# Altium footprint library SOT Pakage-Small Outline Transistor.PcbLib: 9 footprints
Each footprint in its own frame and in the unit in brackets; x right, y up, seen from the top. Pads: shape width x height; smd on the part's side, far side on the other; paste and mask are expansions set on the pad; w line width, h text height; cw(c..) or ccw(c..) is an arc to the next point about the centre after c.
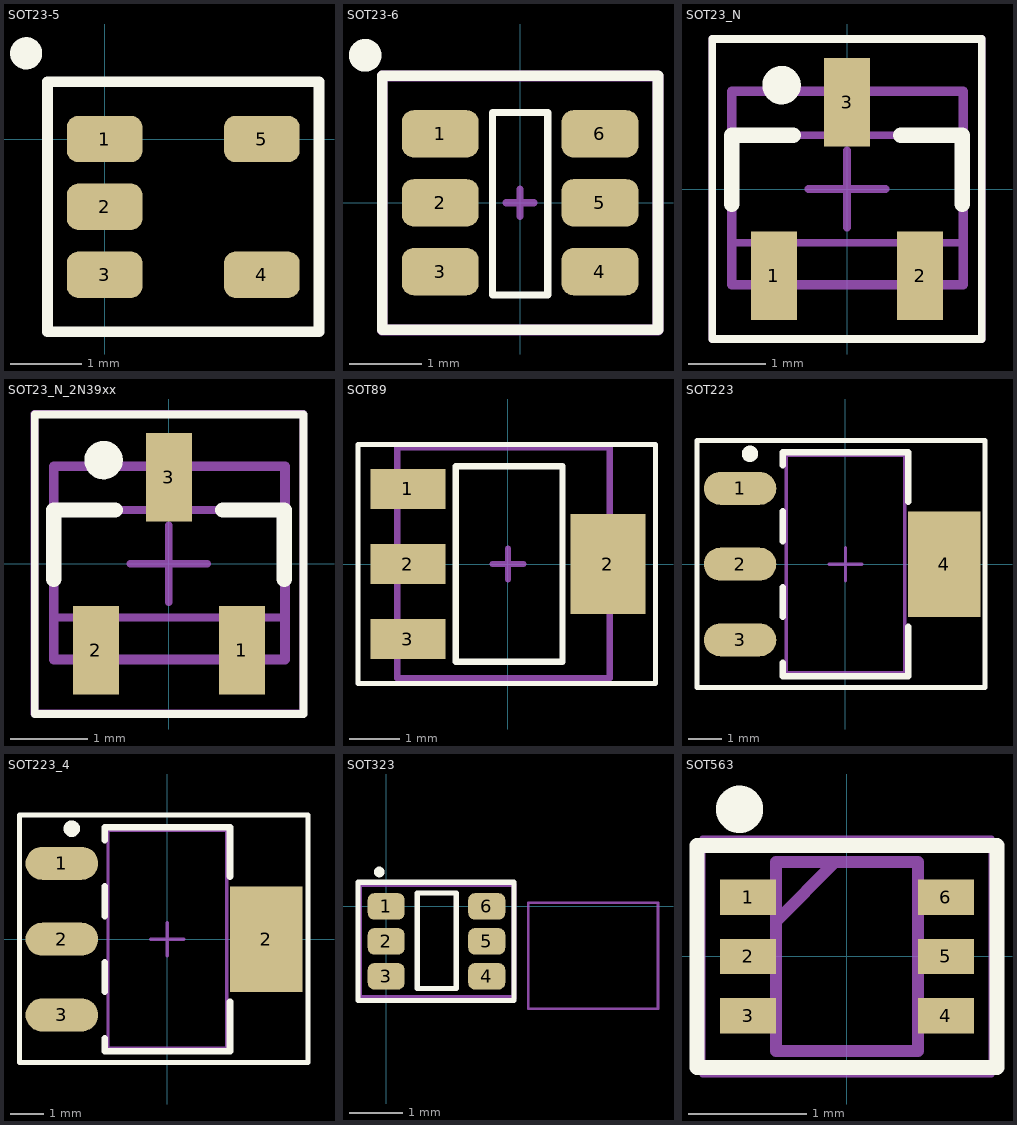
[diagram p0: the footprints below, top view; thin cyan lines are the x and y axes]

## SOT23-5 [mm]
height 3
pads (5):
  rrect50% 1.06x0.65 smd: 1(0,0) 2(0,-0.95) 3(0,-1.9) 4(2.2,-1.9) 5(2.2,0)
Top Overlay:
  circle w0.25: c-1.1,1.2 r0.1
  lines w0.15: -0.8,-2.7 3,-2.7 3,0.8 -0.8,0.8 -0.8,-2.7
3D body "sot235.step": height 1, standoff 0, extent -0.07,-2.41 2.27,0.51

## SOT23-6 [mm]
height 3
pads (6):
  rrect50% 1.06x0.65 smd: 1(-1.1,0.95) 2(-1.1,0) 3(-1.1,-0.95) 4(1.1,-0.95) 5(1.1,0) 6(1.1,0.95)
Top Overlay:
  circle w0.25: c-2.134,2.032 r0.1
  lines w0.1: -0.381,-1.27 -0.381,1.245 0.381,1.245 0.381,-1.27 -0.381,-1.27
  lines w0.15: -1.9,-1.75 -1.9,1.75 1.9,1.75 1.9,-1.75 -1.9,-1.75
Mechanical 15:
  lines w0.1: -0.191,0 0.191,0 ; 0,-0.191 0,0.191
  lines w0.15: -1.9,-1.753 1.9,-1.753 1.9,1.747 -1.9,1.747 -1.9,-1.753
3D body "TSOP-6.step": height 1.03, standoff 0.03, extent -1.35,-1.5 1.35,1.5

## SOT23_N [mm] "SOT23, 3-Leads, Body 2.9x1.3mm, Pitch 0.95mm, Lead Span 2.3mm - Reverse Pinning, IPC Medium Density"
height 1.1
pads (3):
  rect 0.6x1.15 smd: 1(-0.95,-1.125) 2(0.95,-1.125) 3(0,1.125)
Top Overlay:
  circle w0.25: c-0.85,1.35 r0.125
  lines w0.1: -1.75,-1.95 -1.75,1.95 1.75,1.95 1.75,-1.95 -1.75,-1.95
  lines w0.2: -1.5,-0.2 -1.5,0.7 -0.7,0.7 ; 0.7,0.7 1.5,0.7 1.5,-0.2
Mechanical 13:
  lines w0.1: -1.5,-0.7 1.5,-0.7 1.5,0.7 -1.5,0.7 -1.5,-0.7
Mechanical 15:
  lines w0.1: -0.5,0 0.5,0 ; 0,-0.5 0,0.5 ; -1.75,-1.95 1.75,-1.95 1.75,1.95 -1.75,1.95 -1.75,-1.95
  lines w0.127: -1.499,-1.245 1.486,-1.245 1.511,-1.245 1.511,1.27 -1.499,1.27 -1.499,-1.245
3D body "SW3DPS-SOT-23-DEFAULT.STEP": height 1.06, standoff -0.04, extent -1.5,-1.25 1.5,1.25

## SOT23_N_2N39xx [mm] "SOT23, 3-Leads, Body 2.9x1.3mm, Pitch 0.95mm, Lead Span 2.3mm - Reverse Pinning, IPC Medium Density"
height 1.1
pads (3):
  rect 0.6x1.15 smd: 1(0.95,-1.125) 2(-0.95,-1.125) 3(0,1.125)
Top Overlay:
  circle w0.25: c-0.85,1.35 r0.125
  lines w0.1: -1.747,-1.956 1.753,-1.956 1.753,1.944 -1.747,1.944 -1.747,-1.956
  lines w0.2: -1.5,-0.2 -1.5,0.7 -0.7,0.7 ; 0.7,0.7 1.5,0.7 1.5,-0.2
Mechanical 13:
  lines w0.1: -1.5,-0.7 -1.5,0.7 1.5,0.7 1.5,-0.7 -1.5,-0.7
Mechanical 15:
  lines w0.1: -0.5,0 0.5,0 ; 0,-0.5 0,0.5 ; -1.75,-1.95 -1.75,1.95 1.75,1.95 1.75,-1.95 -1.75,-1.95
  lines w0.127: -1.499,-1.245 -1.499,1.27 1.511,1.27 1.511,-1.245 1.486,-1.245 -1.499,-1.245
3D body "SW3DPS-SOT-23-DEFAULT.STEP": height 1.06, standoff -0.04, extent -1.5,-1.25 1.5,1.25

## SOT89 [mm]
pads (4):
  rect 1.5x0.8 smd: 1(-2,1.5) 2(-2,0) 3(-2,-1.5)
  rect 1.5x2 smd: 2(2,0)
Top Overlay:
  lines w0.1: -2.997,-2.388 -2.997,2.388 2.946,2.388 2.946,-2.388 -2.997,-2.388
  lines w0.127: -1.041,-1.956 -1.041,1.956 1.092,1.956 1.092,-1.956 -1.041,-1.956
Mechanical 15:
  lines w0.127: -0.305,0 0.305,0 ; 0,-0.305 0,0.305 ; -2.21,-2.286 2.032,-2.286 2.032,2.337 -2.21,2.337 -2.21,-2.286
3D body "SOT89.STEP": height 1.59, standoff -0.02, extent -2.208,-2.285 2.042,2.315

## SOT223 [mm] "SOT223, 4-Leads, Body 6.5x3.5mm, Pitch 2.30mm-Designer Abbas Basereh"
height 1.8
pads (4):
  oval 2.2x1 smd: 1(-3.2,2.3) 2(-3.2,0) 3(-3.2,-2.3)
  rect 2.2x3.2 smd: 4(3,0)
Top Overlay:
  circle w0.25: c-2.9,3.35 r0.125
  lines w0.15: -4.508,-3.741 -4.508,3.759 4.242,3.759 4.242,-3.741 -4.508,-3.741
  lines w0.2: -1.9,-3 -1.9,-3.4 1.9,-3.4 1.9,-1.9 ; -1.9,-1.6 -1.9,-0.7 ; -1.9,0.7 -1.9,1.6 ; -1.9,3 -1.9,3.4 1.9,3.4 1.9,1.9
Mechanical 13:
  lines w0.1: -1.8,-3.3 -1.8,3.3 1.8,3.3 1.8,-3.3 -1.8,-3.3
Mechanical 15:
  lines w0.1: -0.5,0 0.5,0 ; 0,-0.5 0,0.5 ; -4.5,-3.75 4.25,-3.75 4.25,3.75 -4.5,3.75 -4.5,-3.75
3D body "User Library-SOT223-3.step": height 1.7, standoff 0, extent -3.5,-3.25 3.5,3.25

## SOT223_4 [mm] "SOT223, 4-Leads, Body 6.5x3.5mm, Pitch 2.30mm-Designer Abbas Basereh"
height 1.8
pads (4):
  oval 2.2x1 smd: 1(-3.2,2.3) 2(-3.2,0) 3(-3.2,-2.3)
  rect 2.2x3.2 smd: 2(3,0)
Top Overlay:
  circle w0.25: c-2.9,3.35 r0.125
  lines w0.15: -4.483,-3.741 4.267,-3.741 4.267,3.759 -4.483,3.759 -4.483,-3.741
  lines w0.2: -1.9,-3 -1.9,-3.4 1.9,-3.4 1.9,-1.9 ; -1.9,-1.6 -1.9,-0.7 ; -1.9,0.7 -1.9,1.6 ; -1.9,3 -1.9,3.4 1.9,3.4 1.9,1.9
Mechanical 13:
  lines w0.1: -1.8,-3.3 1.8,-3.3 1.8,3.3 -1.8,3.3 -1.8,-3.3
Mechanical 15:
  lines w0.1: -0.5,0 0.5,0 ; 0,-0.5 0,0.5 ; -4.5,-3.75 -4.5,3.75 4.25,3.75 4.25,-3.75 -4.5,-3.75
3D body "User Library-SOT223-3.step": height 1.7, standoff 0, extent -3.5,-3.25 3.5,3.25

## SOT323 [mm]
height 0.95
pads (6):
  rrect50% 0.7x0.5 smd: 1(0,0) 2(0,-0.66) 3(0,-1.321) 4(1.9,-1.321) 5(1.9,-0.66) 6(1.9,0)
Top Overlay:
  lines w0.1: -0.082,0.662 ccw(c-0.131,0.651) -0.081,0.651 ; -0.533,-1.778 -0.533,0.457 2.413,0.457 2.413,-1.778 -0.533,-1.778 ; 0.584,-1.549 0.584,0.254 1.321,0.254 1.321,-1.549 0.584,-1.549
Mechanical 15:
  lines w0.1: -0.508,-1.727 2.413,-1.727 2.413,0.416 -0.508,0.416 -0.508,-1.727
Mechanical 20:
  lines w0.05: 2.686,-1.932 2.686,0.068 5.136,0.068 5.136,-1.932 2.686,-1.932
3D body "SW3dPS-SC70-6.STEP": height 0.92, standoff -0.03, extent -0.11,-1.66 1.99,0.34

## SOT563 [mm]
height 8.382
pads (6):
  rect 0.475x0.3 smd: 1(-0.838,0.5) 2(-0.838,0) 3(-0.838,-0.5) 4(0.838,-0.5) 5(0.838,0) 6(0.838,0.5)
Top Overlay:
  lines w0.13: -1.27,-0.94 -1.27,0.94 1.27,0.94 1.27,-0.94 -1.27,-0.94
  lines w0.3: -0.863,1.262 ccw(c-0.91,1.246) -0.86,1.246
Mechanical 15:
  lines w0.1: -0.6,0.3 -0.1,0.8 ; -0.6,-0.8 -0.6,0.8 0.6,0.8 0.6,-0.8 -0.6,-0.8
Mechanical 20:
  lines w0.05: -1.225,-1 -1.225,1 1.225,1 1.225,-1 -1.225,-1
3D body "IC_DRV8210DRL_SOT6.STEP": height 0.6, standoff 0, extent -0.8,-0.8 0.8,0.8